# Altium schematic symbol library AC214 zenzer diode replace.SCHLIB: 1 symbol
Pins are listed as number, name and electrical type; pins without a type are passive.

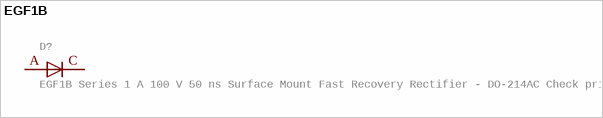
[diagram p0: symbol EGF1B]

## EGF1B
designator D?, comment EGF1B Series 1 A 100 V 50 ns Surface Mount Fast Recovery Rectifier - DO-214AC Check prices
GateName_1: G$1; MF: ON Semiconductor; Description: Diode Standard 100V 1A Surface Mount SMA (DO-214AC); SymbolName_1: EGF1B; LibraryName: AC214 zenzer diode replace; DeviceSetName: EGF1B; Package: DIOM449X264X300L114X135N; Availability: In Stock; Price: None; Package: DO-214AC-214 ON Semiconductor; MP: EGF1B
footprint DIOM449X264X300L114X135N
pins: A, C